# EAGLE library part MBI5026 (library cxa1645)
MBI5026 Author: brunql.github.com
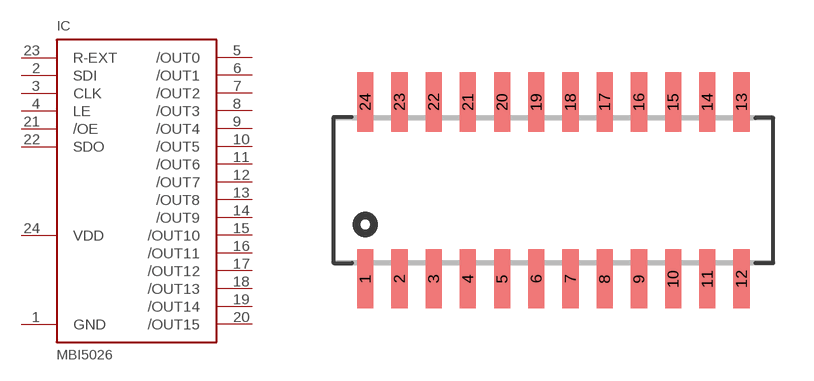
[diagram p1: symbol with the pads of SOP24; footprint SOP24]

Designator prefix IC

## MBI5026GD  [SOP24]
1  GND
2  SDI
3  CLK
4  LE
5  /OUT0
6  /OUT1
7  /OUT2
8  /OUT3
9  /OUT4
10  /OUT5
11  /OUT6
12  /OUT7
13  /OUT8
14  /OUT9
15  /OUT10
16  /OUT11
17  /OUT12
18  /OUT13
19  /OUT14
20  /OUT15
21  /OE
22  SDO
23  R-EXT
24  VDD

## Footprint SOP24 (pad centres in mm)
SMALL OUTLINE PACKAGE
smd 0.6 x 2.2: 1 -6.85,-2.095; 2 -5.58,-2.095; 3 -4.31,-2.095; 4 -3.04,-2.095; 5 -1.77,-2.095; 6 -0.5,-2.095; 7 0.77,-2.095; 8 2.04,-2.095; 9 3.31,-2.095; 10 4.58,-2.095; 11 5.85,-2.095; 12 7.12,-2.095; 13 7.12,4.47; 14 5.85,4.47; 15 4.58,4.47; 16 3.31,4.47; 17 2.04,4.47; 18 0.77,4.47; 19 -0.5,4.47; 20 -1.77,4.47; 21 -3.04,4.47; 22 -4.31,4.47; 23 -5.58,4.47; 24 -6.85,4.47